# EAGLE library part MPU9250 (library invensense)
Accelerometer, Gyroscope, Magnetometer, 3 Axis Sensor I²C, SPI Output
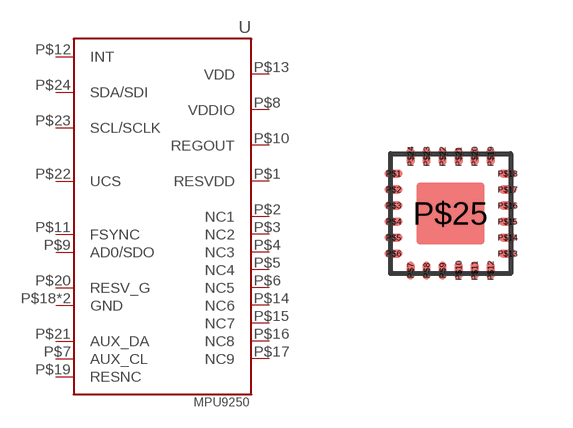
[diagram p0: symbol with the pads of MPU9250; footprint MPU9250]

Designator prefix U

## MPU9250 (DIGIKEY: 1428-1019-1-ND; MFR: Invensense; MPN: MPU-9250; P1I: o)  [MPU9250]
P$1  RESVDD
P$2  NC1
P$3  NC2
P$4  NC3
P$5  NC4
P$6  NC5
P$7  AUX_CL
P$8  VDDIO
P$9  AD0/SDO
P$10  REGOUT
P$11  FSYNC
P$12  INT
P$13  VDD
P$14  NC6
P$15  NC7
P$16  NC8
P$17  NC9
P$18  GND
P$19  RESNC
P$20  RESV_G
P$21  AUX_DA
P$22  UCS
P$23  SCL/SCLK
P$24  SDA/SDI
P$25  GND

## Footprint MPU9250 (pad centres in mm)
smd 0.45 x 0.2: P$1 -1.425,1; P$2 -1.425,0.6; P$3 -1.425,0.2; P$4 -1.425,-0.2; P$5 -1.425,-0.6; P$6 -1.425,-1; P$13 1.425,-1; P$14 1.425,-0.6; P$15 1.425,-0.2; P$16 1.425,0.2; P$17 1.425,0.6; P$18 1.425,1
smd 0.2 x 0.45: P$7 -1,-1.425; P$8 -0.6,-1.425; P$9 -0.2,-1.425; P$10 0.2,-1.425; P$11 0.6,-1.425; P$12 1,-1.425; P$19 1,1.425; P$20 0.6,1.425; P$21 0.2,1.425; P$22 -0.2,1.425; P$23 -0.6,1.425; P$24 -1,1.425
smd 1.7 x 1.54: P$25 0,0